# EAGLE library part NC7SZ157P6X (library bus-blaster-case)
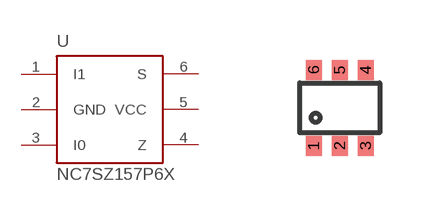
[diagram p3: symbol with the pads of SC70; footprint SC70]

Designator prefix -

## NC7SZ157P6X  [SC70]
1  I1  in
2  GND  pwr
3  I0  in
4  Z  out
5  VCC  pwr
6  S  in

## Footprint SC70 (pad centres in mm)
smd 0.4 x 0.5: 1 -0.65,-0.95; 2 0,-0.95; 3 0.65,-0.95; 4 0.65,0.95; 5 0,0.95; 6 -0.65,0.95